# EAGLE library part AS1110 (library hsk_2012)
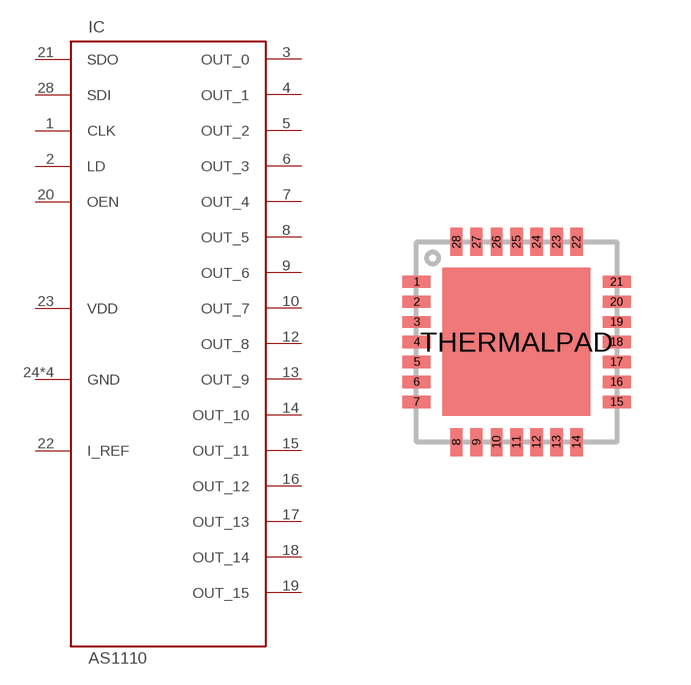
[diagram p37: symbol with the pads of QFN28_5X5; footprint QFN28_5X5]

Designator prefix IC

## AS1110  [QFN28_5X5]
1  CLK
2  LD
3  OUT_0
4  OUT_1
5  OUT_2
6  OUT_3
7  OUT_4
8  OUT_5
9  OUT_6
10  OUT_7
11  NC
12  OUT_8
13  OUT_9
14  OUT_10
15  OUT_11
16  OUT_12
17  OUT_13
18  OUT_14
19  OUT_15
20  OEN
21  SDO
22  I_REF
23  VDD
24  GND
25  GND
26  GND
27  GND
28  SDI

## Footprint QFN28_5X5 (pad centres in mm)
smd 0.7 x 0.3: 1 -2.5,1.5; 2 -2.5,1; 3 -2.5,0.5; 4 -2.5,0; 5 -2.5,-0.5; 6 -2.5,-1; 7 -2.5,-1.5; 15 2.5,-1.5; 16 2.5,-1; 17 2.5,-0.5; 18 2.5,0; 19 2.5,0.5; 20 2.5,1; 21 2.5,1.5
smd 0.3 x 0.7: 8 -1.5,-2.5; 9 -1,-2.5; 10 -0.5,-2.5; 11 0,-2.5; 12 0.5,-2.5; 13 1,-2.5; 14 1.5,-2.5; 22 1.5,2.5; 23 1,2.5; 24 0.5,2.5; 25 0,2.5; 26 -0.5,2.5; 27 -1,2.5; 28 -1.5,2.5
smd 3.7 x 3.7: THERMALPAD 0,0